# Altium footprint library Connectors.PcbLib: 45 footprints (part 1 of 3)
Each footprint in its own frame and in the unit in brackets; x right, y up, seen from the top. Pads: shape width x height; smd on the part's side, far side on the other; paste and mask are expansions set on the pad; w line width, h text height; cw(c..) or ccw(c..) is an arc to the next point about the centre after c.
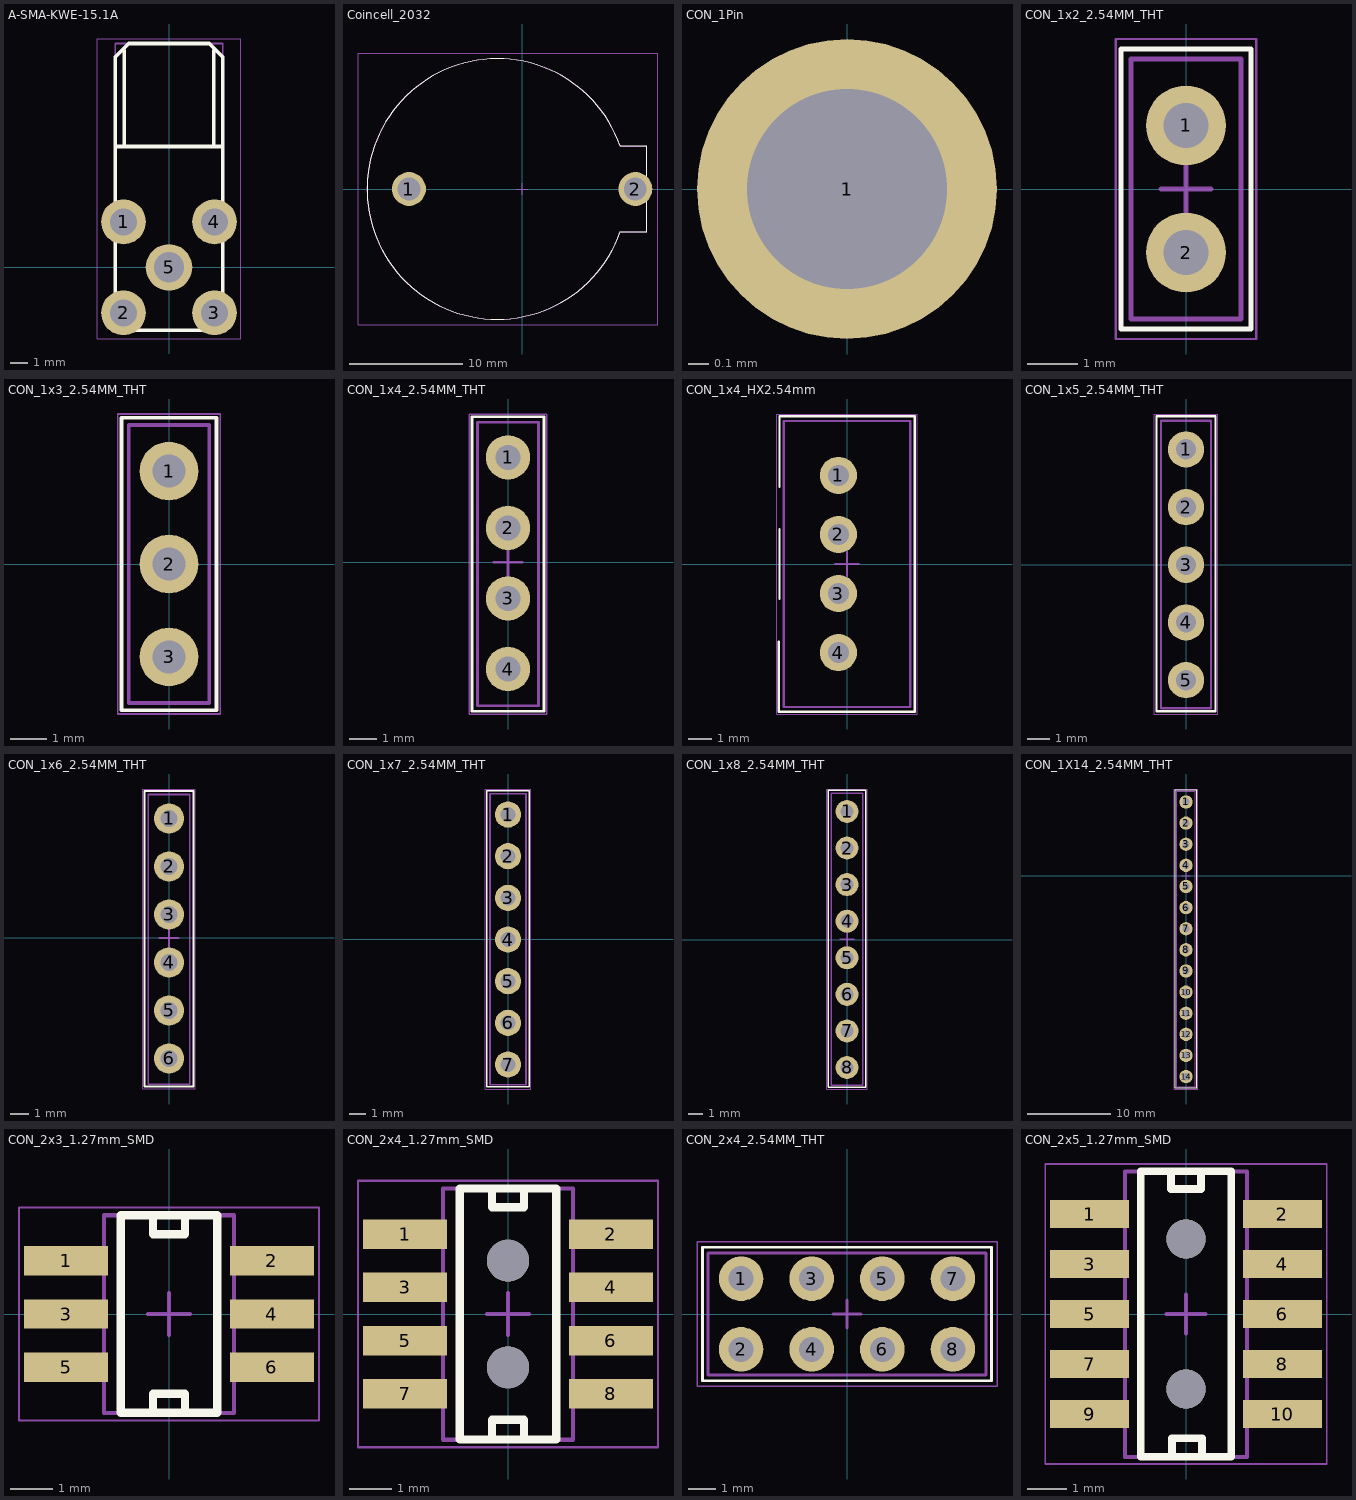
[diagram p0: the footprints below, top view; thin cyan lines are the x and y axes]

## A-SMA-KWE-15.1A [mm] "1 Inner Bore SMA Board Side Elbow 6GHz 50Ω 5.35mm Through Hole Coaxial Connector (RF) Adapters RoHS"
height 4.8
pads (5):
  round 2.5 hole 1.5: 1(-2.54,2.54) 2(-2.54,-2.54) 3(2.54,-2.54) 4(2.54,2.54)
  round 2.6 hole 1.7: 5(0,0)
Top Overlay:
  lines w0.2: -3,6.75 3,6.75 ; -2.625,12.125 -2.5,12.125 -2.5,6.75 ; 2.5,6.75 2.5,12.125 2.625,12.125 ; -3,-3.5 -3,11.75 -2.25,12.5 2.25,12.5 3,11.75 3,-3.5 -3,-3.5
Mechanical 13:
  lines w0.1: -3,-3.5 3,-3.5 3,12.5 -3,12.5 -3,-3.5
Mechanical 15:
  lines w0.05: -4,-4 4,-4 4,12.75 -4,12.75 -4,-4
  lines w0.1: -0.5,0 0.5,0 ; 0,-0.5 0,0.5
3D body: height 10.8, standoff 4.8, extent -3,3 3,11.6
3D body: height 11, standoff 0.1, extent -3,-3 3,3

## Coincell_2032 [mm]
pads (2):
  round 3 hole 2: 1(-10,0) 2(10,0)
Top Overlay:
  lines w0.1: 8.65,3.818 ccw(c-2.2,0) 8.66,-3.786 11,-3.786 11,3.818 8.65,3.818
Mechanical 13:
  lines w0.1: 8.667,-3.789 cw(c-2.2,0) 8.667,3.789 11,3.789 11,-3.789 8.667,-3.789
Mechanical 15:
  lines w0.05: -14.5,-12 -14.5,12 12,12 12,-12 -14.5,-12
  lines w0.1: -0.5,0 -0.3,0 0.5,0 ; 0,-0.5 0,0.5
3D body: height 7.7, standoff 0.5, extent 7.9,-3.8 11,3.804
3D body: height 8.2, standoff 0.5, extent -13.7,-11.497 9.3,11.497

## CON_1Pin [mm]
pads (1):
  round 1.5 hole 1: 1(0,0)

## CON_1x2_2.54MM_THT [mm] "Chip Resistor, 2-Leads, Body 5,20x3,30mm, IPC Medium Density"
height 1.4
pads (2):
  round 1.6 hole 0.9: 1(0,1.27) 2(0,-1.27)
Top Overlay:
  lines w0.1: -1.3,-2.8 -1.3,2.8 1.3,2.8 1.3,-2.8 -1.3,-2.8
Mechanical 13:
  lines w0.1: -1.1,-2.6 -1.1,2.6 1.1,2.6 1.1,-2.6 -1.1,-2.6
Mechanical 15:
  lines w0.05: -1.4,-3 -1.4,3 1.4,3 1.4,-3 -1.4,-3
  lines w0.1: -0.5,0 0.5,0 ; 0,-0.5 0,0.5
3D body: height 6.3, standoff 0.1, extent -1,-2.5 1,2.5

## CON_1x3_2.54MM_THT [mm] "Chip Resistor, 2-Leads, Body 5,20x3,30mm, IPC Medium Density"
height 1.4
pads (3):
  round 1.6 hole 0.9: 1(0,2.54) 2(0,0) 3(0,-2.54)
Top Overlay:
  lines w0.1: -1.3,-4 1.3,-4 1.3,4 -1.3,4 -1.3,-4
Mechanical 13:
  lines w0.1: -1.1,-3.8 1.1,-3.8 1.1,3.8 -1.1,3.8 -1.1,-3.8
Mechanical 15:
  lines w0.05: -1.4,-4.1 1.4,-4.1 1.4,4.1 -1.4,4.1 -1.4,-4.1
  lines w0.1: -0.5,0 0.5,0 ; 0,-0.5 0,0.5
3D body: height 6.3, standoff 0.1, extent -1,-3.7 1,3.7

## CON_1x4_2.54MM_THT [mm] "Chip Resistor, 2-Leads, Body 5,20x3,30mm, IPC Medium Density"
height 1.4
pads (4):
  round 1.6 hole 0.9: 1(0,3.78) 2(0,1.24) 3(0,-1.3) 4(0,-3.84)
Top Overlay:
  lines w0.1: -1.3,-5.36 1.3,-5.36 1.3,5.24 -1.3,5.24 -1.3,-5.36
Mechanical 13:
  lines w0.1: -1.1,-5.16 1.1,-5.16 1.1,5.04 -1.1,5.04 -1.1,-5.16
Mechanical 15:
  lines w0.05: -1.4,-5.46 1.4,-5.46 1.4,5.34 -1.4,5.34 -1.4,-5.46
  lines w0.1: -0.5,0 0.5,0 ; 0,-0.5 0,0.5
3D body: height 6.3, standoff 0.1, extent -1,-5.06 1,4.94

## CON_1x4_HX2.54mm [mm]
pads (4):
  round 1.6 hole 0.9: 1(-0.37,3.81) 2(-0.37,1.27) 3(-0.37,-1.27) 4(-0.37,-3.81)
Top Overlay:
  lines w0.1: -2.931,-3.35 -2.931,-6.35 -2.91,-6.35 2.911,-6.35 2.911,6.35 -2.906,6.35 -2.906,3.327 ; -2.906,-1.499 -2.906,1.501
Mechanical 13:
  lines w0.1: -2.722,-6.148 2.722,-6.148 2.722,6.149 -2.722,6.149 -2.722,-6.148
Mechanical 15:
  lines w0.05: -3.012,-6.451 3.011,-6.451 3.011,6.451 -3.012,6.451 -3.012,-6.451
  lines w0.1: -0.5,0 0.5,0 ; 0,-0.5 0,0.5
3D body: height 6.3, standoff 0.1, extent -2.621,-6.073 2.621,6.023

## CON_1x5_2.54MM_THT [mm]
height 1.4
pads (5):
  round 1.6 hole 0.9: 1(0,5.08) 2(0,2.54) 3(0,0) 4(0,-2.54) 5(0,-5.08)
Top Overlay:
  lines w0.1: -1.3,-6.447 -1.3,6.54 1.3,6.54 1.3,-6.447 -1.3,-6.447
Mechanical 13:
  lines w0.1: -1.1,-6.32 -1.1,6.34 1.1,6.34 1.1,-6.32 -1.1,-6.32
Mechanical 15:
  lines w0.05: -1.4,-6.574 -1.4,6.64 1.4,6.64 1.4,-6.574 -1.4,-6.574
  lines w0.1: -0.5,0.03 0.5,0.03 ; 0,-0.47 0,0.53
3D body: height 6.3, standoff 0.1, extent -1,-6.244 1,6.24

## CON_1x6_2.54MM_THT [mm]
height 1.4
pads (6):
  round 1.6 hole 0.9: 1(0,6.32) 2(0,3.78) 3(0,1.24) 4(0,-1.3) 5(0,-3.84) 6(0,-6.38)
Top Overlay:
  lines w0.1: -1.3,-7.874 1.3,-7.874 1.3,7.78 -1.3,7.78 -1.3,-7.874
Mechanical 13:
  lines w0.1: -1.1,-7.747 -1.1,7.58 1.1,7.58 1.1,-7.747 -1.1,-7.747
Mechanical 15:
  lines w0.05: -1.4,-8.001 1.4,-8.001 1.4,7.88 -1.4,7.88 -1.4,-8.001
  lines w0.1: -0.5,0 0.5,0 ; 0,-0.5 0,0.5
3D body: height 6.3, standoff 0.1, extent -1,-7.62 1,7.48

## CON_1x7_2.54MM_THT [mm]
height 1.4
pads (7):
  round 1.6 hole 0.9: 1(0,7.596) 2(0,5.056) 3(0,2.516) 4(0,-0.024) 5(0,-2.564) 6(0,-5.104) 7(0,-7.644)
Top Overlay:
  lines w0.1: -1.3,-9.011 1.3,-9.011 1.3,9.056 -1.3,9.056 -1.3,-9.011
Mechanical 13:
  lines w0.1: -1.1,-8.884 1.1,-8.884 1.1,8.856 -1.1,8.856 -1.1,-8.884
Mechanical 15:
  lines w0.05: -1.4,-9.138 1.4,-9.138 1.4,9.156 -1.4,9.156 -1.4,-9.138
  lines w0.1: -0.5,0.006 0.5,0.006 ; 0,-0.493 0,0.507
3D body: height 6.3, standoff 0.1, extent -1,-8.757 1,8.757

## CON_1x8_2.54MM_THT [mm] "Chip Resistor, 2-Leads, Body 5,20x3,30mm, IPC Medium Density"
height 1.4
pads (8):
  round 1.6 hole 0.9: 1(0,8.911) 2(0,6.371) 3(0,3.831) 4(0,1.291) 5(0,-1.249) 6(0,-3.789) 7(0,-6.329) 8(0,-8.869)
Top Overlay:
  lines w0.1: -1.3,-10.236 -1.3,10.371 1.3,10.371 1.3,-10.236 -1.3,-10.236
Mechanical 13:
  lines w0.1: -1.1,-10.109 -1.1,10.171 1.1,10.171 1.1,-10.109 -1.1,-10.109
Mechanical 15:
  lines w0.05: -1.4,-10.363 -1.4,10.471 1.4,10.471 1.4,-10.363 -1.4,-10.363
  lines w0.1: -0.5,0.051 0.5,0.051 ; 0,-0.449 0,0.551
3D body: height 6.3, standoff 0.1, extent -1,-9.982 1,10.071

## CON_1X14_2.54MM_THT [mm]
pads (14):
  round 1.6 hole 0.9: 1(0,8.86) 2(0,6.32) 3(0,3.78) 4(0,1.24) 5(0,-1.3) 6(0,-3.84) 7(0,-6.38) 8(0,-8.92) 9(0,-11.46) 10(0,-14) 11(0,-16.54) 12(0,-19.08) 13(0,-21.62) 14(0,-24.16)
Top Overlay:
  lines w0.1: -1.3,-25.527 1.3,-25.527 1.3,10.32 -1.3,10.32 -1.3,-25.527
Mechanical 13:
  lines w0.1: -1.1,-25.4 -1.1,10.12 1.1,10.12 1.1,-25.4 -1.1,-25.4
Mechanical 15:
  lines w0.05: -1.4,-25.654 1.4,-25.654 1.4,10.42 -1.4,10.42 -1.4,-25.654
  lines w0.1: -0.5,0 0.5,0 ; 0,-0.5 0,0.5
3D body: height 6.3, standoff 0.1, extent -1,-25.273 1,10.02

## CON_2x3_1.27mm_SMD [mm]
pads (6):
  rect 2x0.7 smd: 1(-2.45,1.27) 2(2.45,1.27) 3(-2.45,0) 4(2.45,0) 5(-2.45,-1.27) 6(2.45,-1.27)
Top Overlay:
  lines w0.2: -0.381,-2.355 -0.381,-1.905 0.381,-1.905 0.381,-2.355 ; -0.381,2.355 -0.381,1.905 0.381,1.905 0.381,2.355 ; -1.15,-2.355 -1.15,2.355 1.15,2.355 1.15,-2.355 -1.15,-2.355
Mechanical 13:
  lines w0.1: -1.55,-2.362 -1.55,2.355 1.55,2.355 1.55,-2.362 -1.55,-2.362
Mechanical 15:
  lines w0.05: -3.575,-2.54 -3.575,2.54 3.575,2.54 3.575,-2.54 -3.575,-2.54
  lines w0.1: -0.5,0 0.5,0 ; 0,-0.5 0,0.5
3D body: height 4.8, standoff 1.3, extent -1.55,-2.355 1.55,2.355

## CON_2x4_1.27mm_SMD [mm]
pads (10):
  rect 2x0.7 smd: 1(-2.45,1.905) 2(2.45,1.905) 3(-2.45,0.635) 4(2.45,0.635) 5(-2.45,-0.635) 6(2.45,-0.635) 7(-2.45,-1.905) 8(2.45,-1.905)
  round 1 hole 1 unplated: ""(0,-1.27) ""(0,1.27)
Top Overlay:
  lines w0.2: -0.381,-2.968 -0.381,-2.518 0.381,-2.518 0.381,-2.968 ; -0.381,2.99 -0.381,2.54 0.381,2.54 0.381,2.99 ; -1.15,-2.99 1.15,-2.99 1.15,2.99 -1.15,2.99 -1.15,-2.99
Mechanical 13:
  lines w0.1: -1.55,-2.997 -1.55,2.99 1.55,2.99 1.55,-2.997 -1.55,-2.997
Mechanical 15:
  lines w0.05: -3.575,-3.175 -3.575,3.175 3.575,3.175 3.575,-3.175 -3.575,-3.175
  lines w0.1: -0.5,0 0.5,0 ; 0,-0.5 0,0.5
3D body: height 4.8, standoff 1.3, extent -1.55,-2.997 1.55,2.99

## CON_2x4_2.54MM_THT [mm]
height 1.4
pads (8):
  round 1.6 hole 0.9: 1(-3.81,1.27) 2(-3.81,-1.27) 3(-1.27,1.27) 4(-1.27,-1.27) 5(1.27,1.27) 6(1.27,-1.27) 7(3.81,1.27) 8(3.81,-1.27)
Top Overlay:
  lines w0.1: -5.2,-2.4 5.2,-2.4 5.2,2.4 -5.2,2.4 -5.2,-2.4
Mechanical 13:
  lines w0.1: -5,-2.2 5,-2.2 5,2.2 -5,2.2 -5,-2.2
Mechanical 15:
  lines w0.05: -5.4,-2.6 5.4,-2.6 5.4,2.6 -5.4,2.6 -5.4,-2.6
  lines w0.1: -0.5,0 0.5,0 ; 0,-0.5 0,0.5
3D body: height 2.4, standoff 0.1, extent -5,-2.2 5,2.2
3D body: height 8.3, standoff -3, extent -4.11,-1.57 -3.51,-0.97
3D body: height 8.3, standoff -3, extent -4.11,0.97 -3.51,1.57
3D body: height 8.3, standoff -3, extent -1.57,-1.57 -0.97,-0.97
3D body: height 8.3, standoff -3, extent -1.57,0.97 -0.97,1.57
3D body: height 8.3, standoff -3, extent 0.97,-1.57 1.57,-0.97
3D body: height 8.3, standoff -3, extent 0.97,0.97 1.57,1.57
3D body: height 8.3, standoff -3, extent 3.51,-1.57 4.11,-0.97
3D body: height 8.3, standoff -3, extent 3.51,0.97 4.11,1.57

## CON_2x5_1.27mm_SMD [mm]
pads (12):
  rect 2x0.7 smd: 1(-2.45,2.54) 2(2.45,2.54) 3(-2.45,1.27) 4(2.45,1.27) 5(-2.45,0) 6(2.45,0) 7(-2.45,-1.27) 8(2.45,-1.27) 9(-2.45,-2.54) 10(2.45,-2.54)
  round 1 hole 1 unplated: ""(0,-1.905) ""(0,1.905)
Top Overlay:
  lines w0.2: -0.381,3.625 -0.381,3.175 0.381,3.175 0.381,3.625 ; -0.356,-3.607 -0.356,-3.157 0.406,-3.157 0.406,-3.607 ; -1.15,-3.625 1.15,-3.625 1.15,3.625 -1.15,3.625 -1.15,-3.625
Mechanical 13:
  lines w0.1: -1.55,-3.632 -1.55,3.625 1.55,3.625 1.55,-3.632 -1.55,-3.632
Mechanical 15:
  lines w0.05: -3.575,-3.81 -3.575,3.81 3.575,3.81 3.575,-3.81 -3.575,-3.81
  lines w0.1: -0.5,0 0.5,0 ; 0,-0.5 0,0.5
3D body: height 4.8, standoff 1.3, extent -1.55,-3.632 1.55,3.625